# EAGLE library part LM4871 (library Elecrow_IC)
3W Audio Power Amplifier with Shutdown Mode http://www.arm9board.net/download/FL6410/datasheet/LM4871.pdf
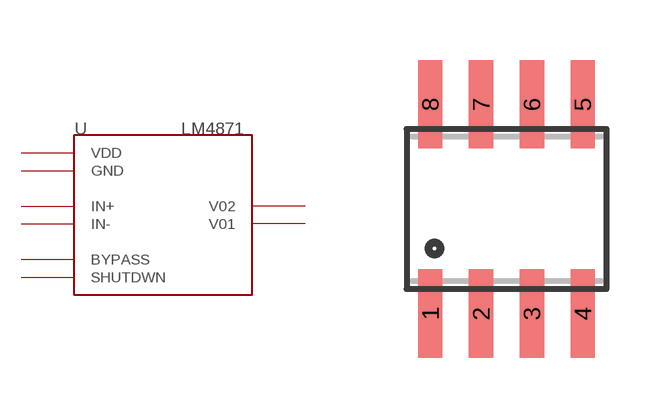
[diagram p25: symbol with the pads of SO08; footprint SO08]

Designator prefix U

## LM4871M  [SO08]
1  SHUTDWN
2  BYPASS
3  IN+
4  IN-
5  V01
6  VDD
7  GND
8  V02

## Footprint SO08 (pad centres in mm)
Small Outline Package
smd 0.61 x 2.21: 1 -1.905,-2.616; 2 -0.635,-2.616; 3 0.635,-2.616; 4 1.905,-2.616; 5 1.905,2.616; 6 0.635,2.616; 7 -0.635,2.616; 8 -1.905,2.616